# Altium footprint library APSS Flight Parts.PcbLib: 80 footprints (part 1 of 5)
Each footprint in its own frame and in the unit in brackets; x right, y up, seen from the top. Pads: shape width x height; smd on the part's side, far side on the other; paste and mask are expansions set on the pad; w line width, h text height; cw(c..) or ccw(c..) is an arc to the next point about the centre after c.
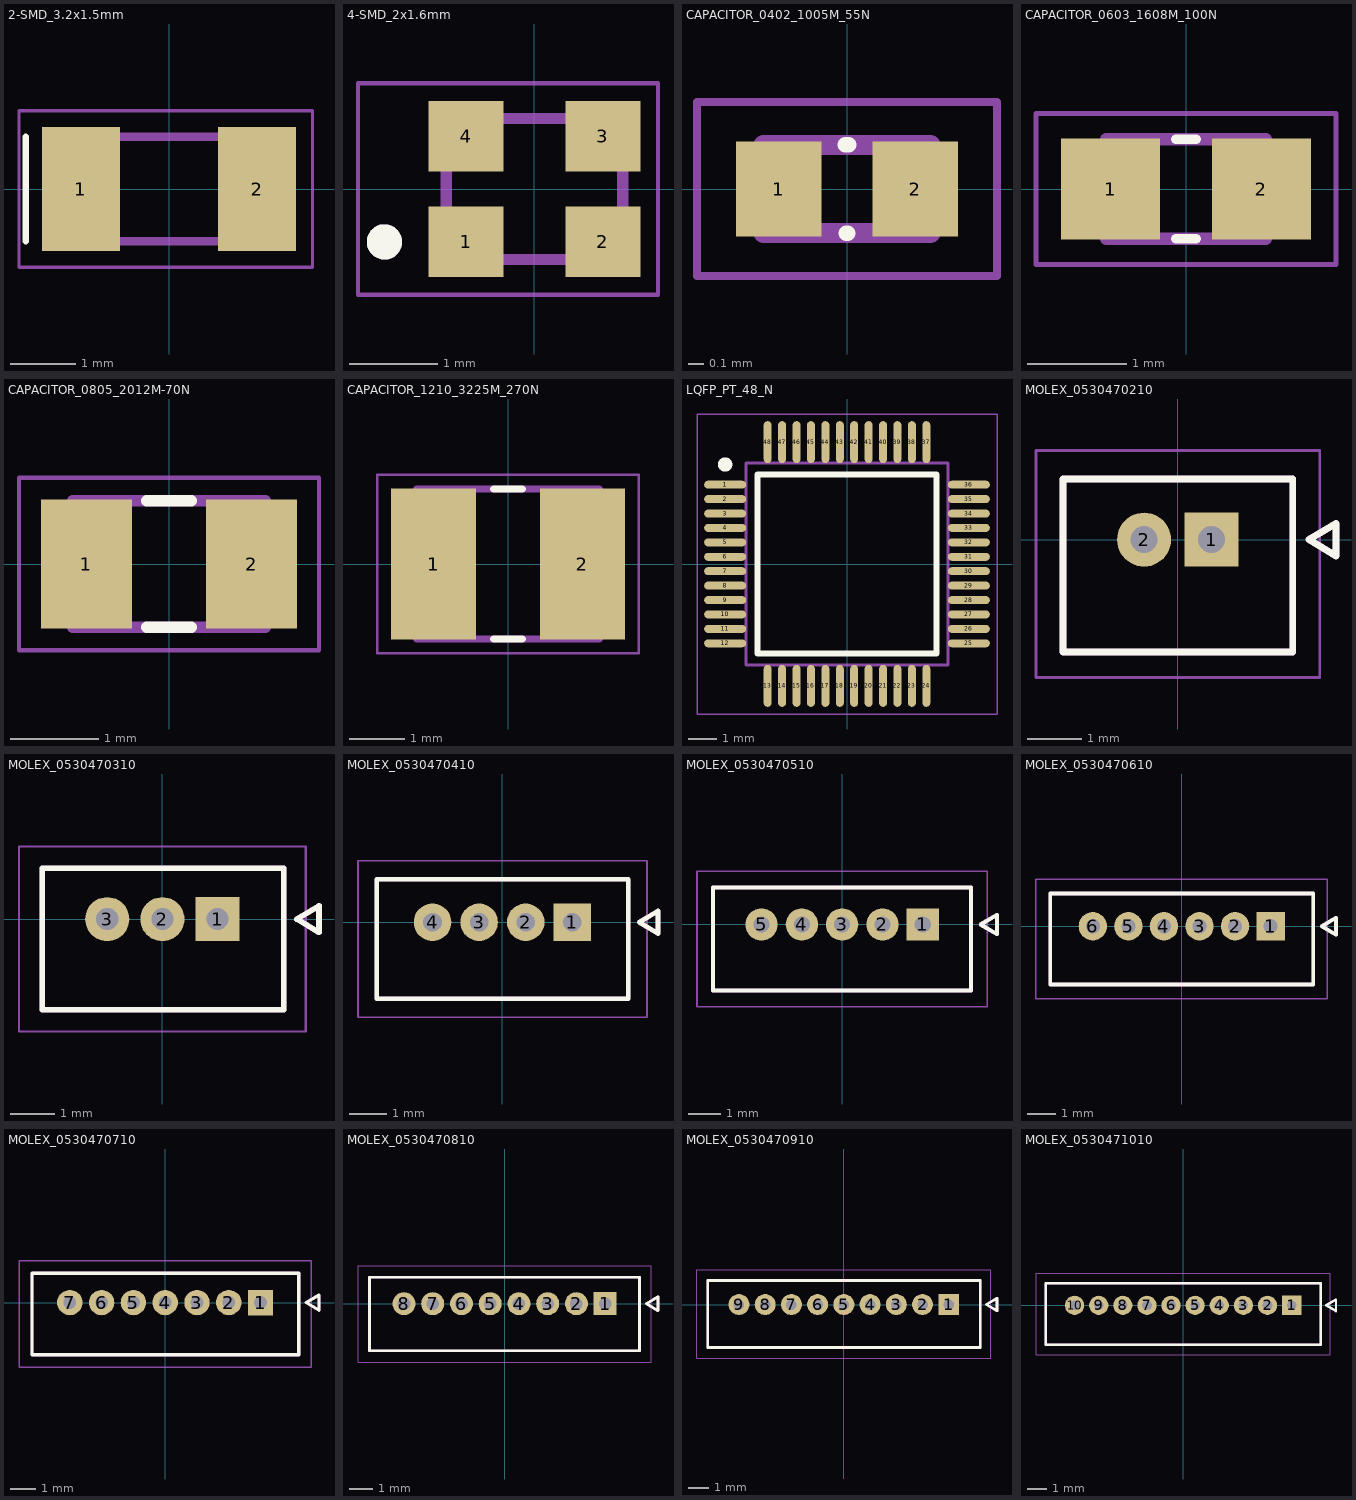
[diagram p0: the footprints below, top view; thin cyan lines are the x and y axes]

## 2-SMD_3.2x1.5mm [mm] "2SMD, No Lead, 3.20mm x 1.50mm"
height 0.9
pads (2):
  rect 1.2x1.9 smd: 1(-1.35,0) 2(1.35,0)
Top Overlay:
  lines w0.1: -2.2,-0.8 -2.2,0.8
Mechanical 13:
  lines w0.127: -1.7,-0.8 -1.7,0.8 1.7,0.8 1.7,-0.8 -1.7,-0.8
Mechanical 15:
  lines w0.05: -2.3,-1.2 -2.3,1.2 2.2,1.2 2.2,-1.2 -2.3,-1.2
3D body "XTAL_ECX-34Q_ECS.step": height 0.89, standoff 0, extent -1.651,-0.8 1.651,0.8

## 4-SMD_2x1.6mm [mm] "4SMD, No Lead, 2.00mm x 1.60mm"
height 0.65
pads (4):
  rect 0.85x0.8 smd: 1(-0.775,-0.6) 2(0.775,-0.6) 3(0.775,0.6) 4(-0.775,0.6)
Top Overlay:
  circle w0.2: c-1.7,-0.6 r0.1
Mechanical 13:
  circle w0.2: c-1.7,-0.6 r0.1
  lines w0.127: -1,-0.8 1,-0.8 1,0.8 -1,0.8 -1,-0.8
Mechanical 15:
  lines w0.05: -2,-1.2 1.4,-1.2 1.4,1.2 -2,1.2 -2,-1.2
3D body "ECS-320-8-37B-CKY-TR.step": height 0.51, standoff 0.01, extent -1,-0.8 1,0.8

## CAPACITOR_0402_1005M_55N [mm] "Capacitor, 0402 (1005 metric), 0.55mm height, nominal pads"
height 0.55
pads (2):
  rect 0.54x0.6 smd mask+0.051: 1(-0.432,0) 2(0.432,0)
Top Overlay:
  lines w0.1: -0.01,0.28 0.01,0.28 ; -0.005,-0.28 0.005,-0.28
Mechanical 13:
  lines w0.127: -0.53,-0.28 -0.53,0.28 0.53,0.28 0.53,-0.28 -0.53,-0.28
Mechanical 15:
  lines w0.05: -0.95,-0.55 -0.95,0.55 0.95,0.55 0.95,-0.55 -0.95,-0.55
3D body "GCM1555C1H102FA16D.step": height 0.48, standoff -0.02, extent -0.5,-0.279 0.5,0.271

## CAPACITOR_0603_1608M_100N [mm] "Capacitor, 0603 (1608 metric), 1mm high, nominal pads"
height 1
pads (2):
  rect 1x1.02 smd mask+0.051: 1(-0.759,0) 2(0.759,0)
Top Overlay:
  lines w0.1: -0.103,-0.5 0.1,-0.5 ; -0.103,0.5 0.1,0.5
Mechanical 13:
  lines w0.127: -0.8,-0.5 0.8,-0.5 0.8,0.5 -0.8,0.5 -0.8,-0.5
Mechanical 15:
  lines w0.05: -1.508,-0.758 1.508,-0.758 1.508,0.758 -1.508,0.758 -1.508,-0.758
3D body "GRM188Z71A106KA73D.step": height 0.78, standoff -0.02, extent -0.8,-0.5 0.8,0.5

## CAPACITOR_0805_2012M-70N [mm] "Capacitor, 0805 (2012 metric), 0.7mm high, nominal pads,"
height 0.5
pads (2):
  rect 1.04x1.47 smd mask+0.051: 1(-0.94,0) 2(0.94,0)
Top Overlay:
  lines w0.127: -0.254,-0.72 0.254,-0.72 ; -0.254,0.72 0.254,0.72
Mechanical 13:
  lines w0.127: -1.1,-0.72 -1.1,0.72 1.1,0.72 1.1,-0.72 -1.1,-0.72
Mechanical 15:
  lines w0.05: -1.708,-0.983 -1.708,0.983 1.708,0.983 1.708,-0.983 -1.708,-0.983
3D body "GCM2165C2A122JA16J.STEP": height 1.23, standoff -0.02, extent -1,-0.725 1,0.725

## CAPACITOR_1210_3225M_270N [mm] "Capacitor, 1210 (3225 metric), 2.7mm high, nominal pads"
height 2.7
pads (2):
  rect 1.53x2.72 smd: 1(-1.341,0) 2(1.341,0)
Top Overlay:
  lines w0.127: -0.26,-1.35 0.26,-1.35 ; -0.26,1.35 0.26,1.35
Mechanical 13:
  lines w0.127: -1.651,-1.35 -1.651,1.35 1.651,1.35 1.651,-1.35 -1.651,-1.35
Mechanical 15:
  lines w0.05: -2.355,-1.608 -2.355,1.608 2.355,1.608 2.355,-1.608 -2.355,-1.608
3D body "GRM32ER61A107ME20L.step": height 2.48, standoff -0.02, extent -1.6,-1.397 1.6,1.303

## LQFP_PT_48_N [mm]
pads (48):
  oval 1.45x0.28 smd paste+0 mask+0.051: 1(-4.225,2.75) 2(-4.225,2.25) 3(-4.225,1.75) 4(-4.225,1.25) 5(-4.225,0.75) 6(-4.225,0.25) 7(-4.225,-0.25) 8(-4.225,-0.75) 9(-4.225,-1.25) 10(-4.225,-1.75) 11(-4.225,-2.25) 12(-4.225,-2.75) 25(4.225,-2.75) 26(4.225,-2.25) 27(4.225,-1.75) 28(4.225,-1.25) 29(4.225,-0.75) 30(4.225,-0.25) 31(4.225,0.25) 32(4.225,0.75) 33(4.225,1.25) 34(4.225,1.75) 35(4.225,2.25) 36(4.225,2.75)
  oval 0.28x1.45 smd paste+0 mask+0.051: 13(-2.75,-4.225) 14(-2.25,-4.225) 15(-1.75,-4.225) 16(-1.25,-4.225) 17(-0.75,-4.225) 18(-0.25,-4.225) 19(0.25,-4.225) 20(0.75,-4.225) 21(1.25,-4.225) 22(1.75,-4.225) 23(2.25,-4.225) 24(2.75,-4.225) 37(2.75,4.225) 38(2.25,4.225) 39(1.75,4.225) 40(1.25,4.225) 41(0.75,4.225) 42(0.25,4.225) 43(-0.25,4.225) 44(-0.75,4.225) 45(-1.25,4.225) 46(-1.75,4.225) 47(-2.25,4.225) 48(-2.75,4.225)
Top Overlay:
  circle w0.25: c-4.225,3.45 r0.125
  lines w0.2: -3.1,-3.1 3.1,-3.1 3.1,3.1 -3.1,3.1 -3.1,-3.1
Mechanical 13:
  lines w0.1: -3.5,-3.5 3.5,-3.5 3.5,3.5 -3.5,3.5 -3.5,-3.5
Mechanical 15:
  lines w0.05: -5.2,-5.2 5.2,-5.2 5.2,5.2 -5.2,5.2 -5.2,-5.2
3D body "MSP430FR2355TPT.STEP": height 1.6, standoff 0, extent -4.5,-4.5 4.5,4.5

## MOLEX_0530470210 [mm]
height 4.2
pads (2):
  rect 1x1 hole 0.5 mask+0.051: 1(0.625,0)
  round 1 hole 0.5 mask+0.051: 2(-0.625,0)
Top Overlay:
  lines w0.127: -2.125,-2.075 -2.125,1.125 2.125,1.125 2.125,-2.075 -2.125,-2.075 ; 2.425,0 2.925,0.3 2.925,-0.3 2.425,0
Mechanical 13:
  lines w0.127: -2.125,-2.075 2.125,-2.075 2.125,1.125 -2.125,1.125 -2.125,-2.075 ; 2.425,0 2.925,0.3 2.925,-0.3 2.425,0
Mechanical 15:
  lines w0.05: -2.625,-2.55 -2.625,1.65 2.625,1.65 2.625,-2.55 -2.625,-2.55
3D body "530470210.stp": height 4.21, standoff -2.29, extent -2.125,-2.057 2.125,1.143

## MOLEX_0530470310 [mm] "Header - Picoblade 03-pin, TH, STR, 4.2mm height"
height 4.2
pads (3):
  rect 1x1 hole 0.5 mask+0.051: 1(1.25,0)
  round 1 hole 0.5 mask+0.051: 2(0,0) 3(-1.25,0)
Top Overlay:
  lines w0.127: -2.725,-2.05 2.75,-2.05 2.75,1.15 -2.725,1.15 -2.725,-2.05 ; 3.05,0 3.55,0.3 3.55,-0.3 3.05,0
Mechanical 13:
  lines w0.127: -2.725,-2.05 2.75,-2.05 2.75,1.15 -2.725,1.15 -2.725,-2.05 ; 3.05,0 3.55,0.3 3.55,-0.3 3.05,0
Mechanical 15:
  lines w0.05: -3.25,-2.55 -3.25,1.65 3.25,1.65 3.25,-2.55 -3.25,-2.55
3D body "530470310.stp": height 4.21, standoff -2.29, extent -2.753,-2.057 2.747,1.143

## MOLEX_0530470410 [mm]
height 4.2
pads (4):
  rect 1.008x1.008 hole 0.5 mask+0.051: 1(1.875,0)
  round 1.008 hole 0.5 mask+0.051: 2(0.625,0) 3(-0.625,0) 4(-1.875,0)
Top Overlay:
  lines w0.127: -3.375,-2.05 3.375,-2.05 3.375,1.15 -3.375,1.15 -3.375,-2.05 ; 3.675,0 4.175,0.3 4.175,-0.3 3.675,0
Mechanical 13:
  lines w0.127: -3.375,-2.05 3.375,-2.05 3.375,1.15 -3.375,1.15 -3.375,-2.05 ; 3.675,0 4.175,0.3 4.175,-0.3 3.675,0
Mechanical 15:
  lines w0.05: -3.875,-2.55 3.875,-2.55 3.875,1.65 -3.875,1.65 -3.875,-2.55
3D body "530470410.stp": height 4.21, standoff -2.29, extent -3.375,-2.057 3.375,1.143

## MOLEX_0530470510 [mm] "Header - Picoblade 05-pin, TH, STR, 4.2mm height"
height 4.2
pads (5):
  rect 1x1 hole 0.5 mask+0.051: 1(2.5,0)
  round 1 hole 0.5 mask+0.051: 2(1.25,0) 3(0,0) 4(-1.25,0) 5(-2.5,0)
Top Overlay:
  lines w0.127: -4.002,-2.05 4,-2.05 4,1.15 -4.002,1.15 -4.002,-2.05 ; 4.3,0 4.8,0.3 4.8,-0.3 4.3,0
Mechanical 13:
  lines w0.127: -4.002,-2.05 -4.002,1.15 4,1.15 4,-2.05 -4.002,-2.05 ; 4.3,0 4.8,0.3 4.8,-0.3 4.3,0
Mechanical 15:
  lines w0.05: -4.5,-2.55 4.5,-2.55 4.5,1.65 -4.5,1.65 -4.5,-2.55
3D body "0530470510.step": height 4.21, standoff -2.29, extent -4.015,-2.057 3.985,1.143

## MOLEX_0530470610 [mm]
height 4.2
pads (6):
  rect 1x1 hole 0.5 mask+0.051: 1(3.125,0)
  round 1 hole 0.5 mask+0.051: 2(1.875,0) 3(0.625,0) 4(-0.625,0) 5(-1.875,0) 6(-3.125,0)
Top Overlay:
  lines w0.127: -4.625,-2.05 -4.625,1.15 4.625,1.15 4.625,-2.05 -4.625,-2.05 ; 4.925,0 5.425,0.3 5.425,-0.3 4.925,0
Mechanical 13:
  lines w0.127: -4.625,-2.05 -4.625,1.15 4.625,1.15 4.625,-2.05 -4.625,-2.05 ; 4.925,0 5.425,0.3 5.425,-0.3 4.925,0
Mechanical 15:
  lines w0.05: -5.125,-2.55 5.125,-2.55 5.125,1.65 -5.125,1.65 -5.125,-2.55
3D body "530470610.stp": height 4.21, standoff -2.29, extent -4.675,-2.057 4.575,1.143

## MOLEX_0530470710 [mm] "Header - Picoblade 07-pin, TH, STR, 4.2mm height"
height 4.2
pads (7):
  rect 1x1 hole 0.5 mask+0.051: 1(3.75,0)
  round 1 hole 0.5 mask+0.051: 2(2.5,0) 3(1.25,0) 4(0,0) 5(-1.25,0) 6(-2.5,0) 7(-3.75,0)
Top Overlay:
  lines w0.127: -5.242,-2.05 -5.242,1.15 5.25,1.15 5.25,-2.05 -5.242,-2.05 ; 5.55,0 6.05,0.3 6.05,-0.3 5.55,0
Mechanical 13:
  lines w0.127: -5.242,-2.05 -5.242,1.15 5.25,1.15 5.25,-2.05 -5.242,-2.05 ; 5.55,0 6.05,0.3 6.05,-0.3 5.55,0
Mechanical 15:
  lines w0.05: -5.75,-2.55 5.75,-2.55 5.75,1.65 -5.75,1.65 -5.75,-2.55
3D body "530470710.stp": height 4.21, standoff -2.29, extent -5.259,-2.057 5.241,1.143

## MOLEX_0530470810 [mm]
height 4.2
pads (8):
  rect 1x1 hole 0.55 mask+0.051: 1(4.375,0)
  round 1 hole 0.55 mask+0.051: 2(3.125,0) 3(1.875,0) 4(0.625,0) 5(-0.625,0) 6(-1.875,0) 7(-3.125,0) 8(-4.375,0)
Top Overlay:
  lines w0.127: -5.875,-2.05 -5.875,1.15 5.875,1.15 5.875,-2.05 -5.875,-2.05 ; 6.175,0 6.675,0.3 6.675,-0.3 6.175,0
Mechanical 13:
  lines w0.127: -5.875,-2.05 -5.875,1.15 5.875,1.15 5.875,-2.05 -5.875,-2.05 ; 6.175,0 6.675,0.3 6.675,-0.3 6.175,0
Mechanical 15:
  lines w0.05: -6.375,-2.55 6.375,-2.55 6.375,1.65 -6.375,1.65 -6.375,-2.55
3D body "step_temp.STEP": height 4.2, standoff -2.3, extent -5.875,-2.05 5.875,1.15

## MOLEX_0530470910 [mm] "Header - Picoblade 09-pin, TH, STR, 4.2mm height"
height 4.2
pads (9):
  rect 1x1 hole 0.5 mask+0.051: 1(5,0)
  round 1 hole 0.5 mask+0.051: 2(3.75,0) 3(2.5,0) 4(1.25,0) 5(0,0) 6(-1.25,0) 7(-2.5,0) 8(-3.75,0) 9(-5,0)
Top Overlay:
  lines w0.127: -6.481,-2.05 -6.481,1.15 6.5,1.15 6.5,-2.05 -6.481,-2.05 ; 6.8,0 7.3,0.3 7.3,-0.3 6.8,0
Mechanical 13:
  lines w0.127: -6.481,-2.05 -6.481,1.15 6.5,1.15 6.5,-2.05 -6.481,-2.05 ; 6.8,0 7.3,0.3 7.3,-0.3 6.8,0
Mechanical 15:
  lines w0.05: -7,-2.55 7,-2.55 7,1.65 -7,1.65 -7,-2.55
3D body "530470910.step": height 4.21, standoff -2.29, extent -6.501,-2.057 6.499,1.143

## MOLEX_0530471010 [mm]
height 4.2
pads (10):
  rect 1x1 hole 0.5 mask+0.051: 1(5.625,0)
  round 1 hole 0.5 mask+0.051: 2(4.375,0) 3(3.125,0) 4(1.875,0) 5(0.625,0) 6(-0.625,0) 7(-1.875,0) 8(-3.125,0) 9(-4.375,0) 10(-5.625,0)
Top Overlay:
  lines w0.127: -7.125,-2.05 -7.125,1.15 7.125,1.15 7.125,-2.05 -7.125,-2.05 ; 7.425,0 7.925,0.3 7.925,-0.3 7.425,0
Mechanical 13:
  lines w0.127: -7.125,-2.05 -7.125,1.15 7.125,1.15 7.125,-2.05 -7.125,-2.05 ; 7.425,0 7.925,0.3 7.925,-0.3 7.425,0
Mechanical 15:
  lines w0.05: -7.625,-2.55 7.625,-2.55 7.625,1.65 -7.625,1.65 -7.625,-2.55
3D body "530471010.stp": height 4.21, standoff -2.29, extent -7.088,-2.032 7.162,1.168